# Altium footprint library senoko_pvt1.PcbLib: 31 footprints (part 2 of 2)
Each footprint in its own frame and in the unit in brackets; x right, y up, seen from the top. Pads: shape width x height; smd on the part's side, far side on the other; paste and mask are expansions set on the pad; w line width, h text height; cw(c..) or ccw(c..) is an arc to the next point about the centre after c.
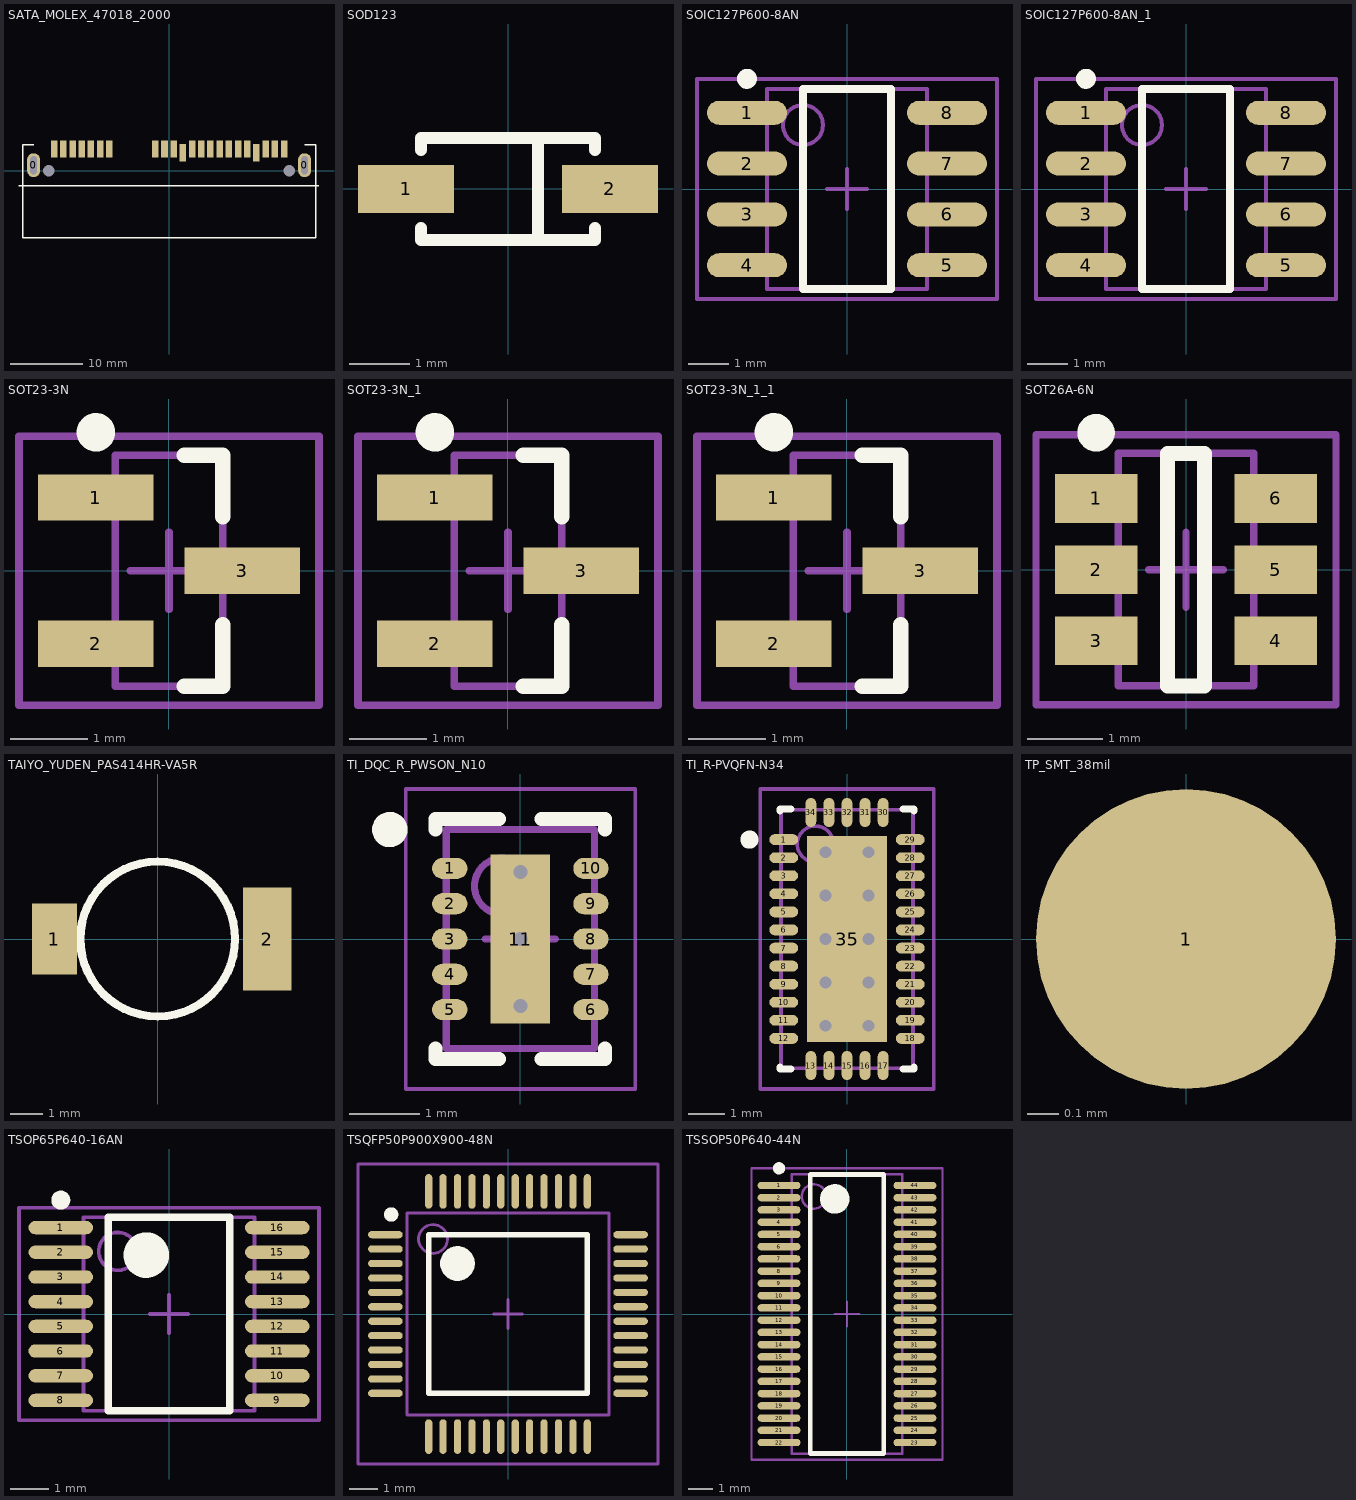
[diagram p1: the footprints below, top view; thin cyan lines are the x and y axes]

## SATA_MOLEX_47018_2000 [mm] "SATA docking connector, top mount type"
height 9.65
pads (26):
  oval 1.8x3.3 hole 0.9 slot 2.5 at 90 deg mask+0.07: 0(-18.71,0.76) 0(18.71,0.76)
  round 1 hole 1.6 unplated mask+0.07: 0(-16.595,0) 0(16.595,0)
  rect 0.9x2.4 smd mask+0.07: 1(15.875,3) 2(14.605,3) 3(13.335,3) 4(12.065,2.5) 5(10.795,3) 6(9.525,3) 7(8.255,3) 8(6.985,3) 9(5.715,3) 10(4.445,3) 11(3.175,3) 12(1.905,2.5) 13(0.635,3) 14(-0.635,3) 15(-1.905,3) 16(-8.255,3) 17(-9.525,3) 18(-10.795,3) 19(-12.065,3) 20(-13.335,3) 21(-14.605,3) 22(-15.875,3)
Top Overlay:
  lines w0.203: -20.725,-2.08 20.7,-2.08 ; -18.7,3.575 -20.2,3.575 -20.2,-9.25 20.225,-9.25 20.225,3.575 18.725,3.575
3D body "470182000.stp": height 4.35, standoff -2.31, extent -20.19,-9.285 20.24,3.585

## SOD123 [mm] "SOD-123; 2 Leads; Body 2.7 x 1.6 mm, (LxW)"
height 1.35
pads (2):
  rect 1.6x0.8 smd: 1(-1.7,0) 2(1.7,0)
Top Overlay:
  lines w0.2: -1.45,-0.65 -1.45,-0.85 1.45,-0.85 1.45,-0.65 ; -1.45,0.65 -1.45,0.85 1.45,0.85 1.45,0.65 ; 0.5,-0.85 0.5,0.85

## SOIC127P600-8AN [mm] "SOIC, 8-Leads, Body 4.9x3.9mm, Pitch 1.27mm, IPC Medium Density"
height 2.72
pads (8):
  oval 2x0.6 smd: 1(-2.5,1.905) 2(-2.5,0.635) 3(-2.5,-0.635) 4(-2.5,-1.905) 5(2.5,-1.905) 6(2.5,-0.635) 7(2.5,0.635) 8(2.5,1.905)
Top Overlay:
  circle w0.25: c-2.5,2.755 r0.125
  lines w0.2: -1.1,-2.5 -1.1,2.5 1.1,2.5 1.1,-2.5 -1.1,-2.5
Mechanical 13:
  circle w0.1: c-1.1,1.6 r0.5
  lines w0.1: -2,-2.5 -2,2.5 2,2.5 2,-2.5 -2,-2.5
Mechanical 15:
  lines w0.1: -0.5,0 0.5,0 ; 0,-0.5 0,0.5 ; -3.75,-2.75 -3.75,2.75 3.75,2.75 3.75,-2.75 -3.75,-2.75
3D body: height 2.72, standoff 0, extent -2,-2.5 2,2.5

## SOIC127P600-8AN_1 [mm] "SOIC, 8-Leads, Body 4.9x3.9mm, Pitch 1.27mm, IPC Medium Density"
height 2.72
pads (8):
  oval 2x0.6 smd: 1(-2.5,1.905) 2(-2.5,0.635) 3(-2.5,-0.635) 4(-2.5,-1.905) 5(2.5,-1.905) 6(2.5,-0.635) 7(2.5,0.635) 8(2.5,1.905)
Top Overlay:
  circle w0.25: c-2.5,2.755 r0.125
  lines w0.2: -1.1,-2.5 -1.1,2.5 1.1,2.5 1.1,-2.5 -1.1,-2.5
Mechanical 13:
  circle w0.1: c-1.1,1.6 r0.5
  lines w0.1: -2,-2.5 -2,2.5 2,2.5 2,-2.5 -2,-2.5
Mechanical 15:
  lines w0.1: -0.5,0 0.5,0 ; 0,-0.5 0,0.5 ; -3.75,-2.75 -3.75,2.75 3.75,2.75 3.75,-2.75 -3.75,-2.75
3D body: height 2.72, standoff 0, extent -2,-2.5 2,2.5

## SOT23-3N [mm] "SOT23, 3-Leads, Body 2.9x1.3mm, Pitch 0.95mm, Lead Span 2.5mm, IPC Medium Density"
height 1.1
pads (3):
  rect 1.5x0.6 smd: 1(-0.95,0.95) 2(-0.95,-0.95) 3(0.95,0)
Top Overlay:
  circle w0.25: c-0.95,1.8 r0.125
  lines w0.2: 0.2,-1.5 0.7,-1.5 0.7,-0.7 ; 0.2,1.5 0.7,1.5 0.7,0.7
Mechanical 13:
  lines w0.1: -0.7,-1.5 0.7,-1.5 0.7,1.5 -0.7,1.5 -0.7,-1.5
Mechanical 15:
  lines w0.1: -0.5,0 0.5,0 ; 0,-0.5 0,0.5 ; -1.95,-1.75 1.95,-1.75 1.95,1.75 -1.95,1.75 -1.95,-1.75
3D body: height 1.1, standoff 0, extent -0.7,-1.5 0.7,1.5

## SOT23-3N_1 [mm] "SOT23, 3-Leads, Body 2.9x1.3mm, Pitch 0.95mm, Lead Span 2.5mm, IPC Medium Density"
height 1.1
pads (3):
  rect 1.5x0.6 smd: 1(-0.95,0.95) 2(-0.95,-0.95) 3(0.95,0)
Top Overlay:
  circle w0.25: c-0.95,1.8 r0.125
  lines w0.2: 0.2,-1.5 0.7,-1.5 0.7,-0.7 ; 0.2,1.5 0.7,1.5 0.7,0.7
Mechanical 13:
  lines w0.1: -0.7,-1.5 0.7,-1.5 0.7,1.5 -0.7,1.5 -0.7,-1.5
Mechanical 15:
  lines w0.1: -0.5,0 0.5,0 ; 0,-0.5 0,0.5 ; -1.95,-1.75 1.95,-1.75 1.95,1.75 -1.95,1.75 -1.95,-1.75
3D body: height 1.1, standoff 0, extent -0.7,-1.5 0.7,1.5

## SOT23-3N_1_1 [mm] "SOT23, 3-Leads, Body 2.9x1.3mm, Pitch 0.95mm, Lead Span 2.5mm, IPC Medium Density"
height 1.1
pads (3):
  rect 1.5x0.6 smd: 1(-0.95,0.95) 2(-0.95,-0.95) 3(0.95,0)
Top Overlay:
  circle w0.25: c-0.95,1.8 r0.125
  lines w0.2: 0.2,-1.5 0.7,-1.5 0.7,-0.7 ; 0.2,1.5 0.7,1.5 0.7,0.7
Mechanical 13:
  lines w0.1: -0.7,-1.5 0.7,-1.5 0.7,1.5 -0.7,1.5 -0.7,-1.5
Mechanical 15:
  lines w0.1: -0.5,0 0.5,0 ; 0,-0.5 0,0.5 ; -1.95,-1.75 1.95,-1.75 1.95,1.75 -1.95,1.75 -1.95,-1.75
3D body: height 1.1, standoff 0, extent -0.7,-1.5 0.7,1.5

## SOT26A-6N [mm] "SOT23, 6-Leads, Body 2.9x1.7mm, Pitch 0.95mm, Lead Span 2.8mm, IPC Medium Density"
height 1.45
pads (6):
  rect 1.1x0.65 smd: 1(-1.2,0.95) 2(-1.2,0) 3(-1.2,-0.95) 4(1.2,-0.95) 5(1.2,0) 6(1.2,0.95)
Top Overlay:
  circle w0.25: c-1.2,1.825 r0.125
  lines w0.2: -0.25,-1.55 0.25,-1.55 0.25,1.55 -0.25,1.55 -0.25,-1.55
Mechanical 13:
  lines w0.1: -0.9,-1.55 -0.9,1.55 0.9,1.55 0.9,-1.55 -0.9,-1.55
Mechanical 15:
  lines w0.1: -0.5,0 0.5,0 ; 0,-0.5 0,0.5 ; -2,-1.8 -2,1.8 2,1.8 2,-1.8 -2,-1.8
3D body: height 1.45, standoff 0, extent -0.9,-1.55 0.9,1.55

## TAIYO_YUDEN_PAS414HR-VA5R [mm] "Taiyo Yuden Supercap"
height 1.4
pads (2):
  rect 1.4x2.2 smd: 1(-3.2,0)
  rect 1.5x3.2 smd: 2(3.4,0)
Top Overlay:
  circle w0.254: c0,0 r2.4
3D body: height 1.4, standoff 0, extent -2.362,-2.391 2.419,2.4

## TI_DQC_R_PWSON_N10 [mm] "TI Plastic small outline no-lead 10 pins with power pad"
height 0.8
pads (11):
  oval 0.5x0.3 smd mask+0.07: 1(-1,1) 2(-1,0.5) 3(-1,0) 4(-1,-0.5) 5(-1,-1) 6(1,-1) 7(1,-0.5) 8(1,0) 9(1,0.5) 10(1,1)
  rect 0.84x2.4 smd mask+0.07: 11(0,0)
via 0,0 diameter 0.5 hole 0.2
via 0,0.95 diameter 0.5 hole 0.2
via 0,-0.95 diameter 0.5 hole 0.2
Top Overlay:
  circle w0.25: c-1.85,1.55 r0.125
  lines w0.2: -1.2,-1.55 -1.2,-1.7 -0.3,-1.7 ; -1.2,1.55 -1.2,1.7 -0.3,1.7 ; 0.3,-1.7 1.2,-1.7 1.2,-1.55 ; 0.3,1.7 1.2,1.7 1.2,1.55
Mechanical 13:
  circle w0.1: c-0.25,0.75 r0.4
  lines w0.1: -1.05,-1.55 1.05,-1.55 1.05,1.55 -1.05,1.55 -1.05,-1.55
Mechanical 15:
  lines w0.05: -1.625,-2.125 1.625,-2.125 1.625,2.125 -1.625,2.125 -1.625,-2.125
  lines w0.1: -0.5,0 0.5,0 ; 0,-0.5 0,0.5
3D body: height 0.8, standoff 0, extent -1.05,-1.55 1.05,1.55

## TI_R-PVQFN-N34 [mm] "34-pin QFN (from TI datasheet)"
height 1
pads (35):
  oval 0.8x0.3 smd mask+0.07: 1(-1.75,2.75) 2(-1.75,2.25) 3(-1.75,1.75) 4(-1.75,1.25) 5(-1.75,0.75) 6(-1.75,0.25) 7(-1.75,-0.25) 8(-1.75,-0.75) 9(-1.75,-1.25) 10(-1.75,-1.75) 11(-1.75,-2.25) 12(-1.75,-2.75) 18(1.75,-2.75) 19(1.75,-2.25) 20(1.75,-1.75) 21(1.75,-1.25) 22(1.75,-0.75) 23(1.75,-0.25) 24(1.75,0.25) 25(1.75,0.75) 26(1.75,1.25) 27(1.75,1.75) 28(1.75,2.25) 29(1.75,2.75)
  oval 0.3x0.8 smd mask+0.07: 13(-1,-3.5) 14(-0.5,-3.5) 15(0,-3.5) 16(0.5,-3.5) 17(1,-3.5) 30(1,3.5) 31(0.5,3.5) 32(0,3.5) 33(-0.5,3.5) 34(-1,3.5)
  rect 2.2x5.7 smd mask+0.07: 35(0,0)
via -0.6,2.4 diameter 0.66 hole 0.33
via 0.6,2.4 diameter 0.66 hole 0.33
via -0.6,1.2 diameter 0.66 hole 0.33
via 0.6,1.2 diameter 0.66 hole 0.33
via -0.6,0 diameter 0.66 hole 0.33
via -0.6,-1.2 diameter 0.66 hole 0.33
via 0.6,-1.2 diameter 0.66 hole 0.33
via -0.6,-2.4 diameter 0.66 hole 0.33
via 0.6,-2.4 diameter 0.66 hole 0.33
via 0.6,0 diameter 0.66 hole 0.33
Top Overlay:
  circle w0.25: c-2.7,2.75 r0.125
  lines w0.2: -1.85,-3.55 -1.85,-3.6 -1.55,-3.6 ; -1.85,3.55 -1.85,3.6 -1.55,3.6 ; 1.55,-3.6 1.85,-3.6 1.85,-3.55 ; 1.55,3.6 1.85,3.6 1.85,3.55
Mechanical 13:
  circle w0.1: c-0.875,2.625 r0.5
  lines w0.1: -1.825,-3.575 -1.825,3.575 1.825,3.575 1.825,-3.575 -1.825,-3.575
Mechanical 15:
  lines w0.1: -0.5,0 0.5,0 ; 0,-0.5 0,0.5 ; -2.4,-4.15 -2.4,4.15 2.4,4.15 2.4,-4.15 -2.4,-4.15
3D body: height 1, standoff 0, extent -1.825,-3.575 1.825,3.575

## TP_SMT_38mil [mil] "38 mil round test point, SMT"
height 114.17
pads (1):
  round 38 smd: 1(0,0)

## TSOP65P640-16AN [mm] "TSOP, 16-Leads, Body 5x4.4mm, Pitch 0.65mm, IPC Medium Density"
height 1.1
pads (16):
  oval 1.7x0.35 smd: 1(-2.85,2.275) 2(-2.85,1.625) 3(-2.85,0.975) 4(-2.85,0.325) 5(-2.85,-0.325) 6(-2.85,-0.975) 7(-2.85,-1.625) 8(-2.85,-2.275) 9(2.85,-2.275) 10(2.85,-1.625) 11(2.85,-0.975) 12(2.85,-0.325) 13(2.85,0.325) 14(2.85,0.975) 15(2.85,1.625) 16(2.85,2.275)
Top Overlay:
  circle w0.25: c-2.85,3 r0.125
  circle w0.6: c-0.6,1.55 r0.3
  lines w0.2: -1.6,-2.55 -1.6,2.55 1.6,2.55 1.6,-2.55 -1.6,-2.55
Mechanical 13:
  circle w0.1: c-1.35,1.65 r0.5
  lines w0.1: -2.25,-2.55 -2.25,2.55 2.25,2.55 2.25,-2.55 -2.25,-2.55
Mechanical 15:
  lines w0.1: -0.5,0 0.5,0 ; 0,-0.5 0,0.5 ; -3.95,-2.8 -3.95,2.8 3.95,2.8 3.95,-2.8 -3.95,-2.8
3D body: height 1.1, standoff 0, extent -2.25,-2.55 2.25,2.55

## TSQFP50P900X900-48N [mm] "Thin QFP, 48-Leads, Body 7x7mm, Pitch 0.5mm, IPC Medium Density"
height 1.6
pads (48):
  oval 1.2x0.25 smd: 1(-4.25,2.75) 2(-4.25,2.25) 3(-4.25,1.75) 4(-4.25,1.25) 5(-4.25,0.75) 6(-4.25,0.25) 7(-4.25,-0.25) 8(-4.25,-0.75) 9(-4.25,-1.25) 10(-4.25,-1.75) 11(-4.25,-2.25) 12(-4.25,-2.75) 25(4.25,-2.75) 26(4.25,-2.25) 27(4.25,-1.75) 28(4.25,-1.25) 29(4.25,-0.75) 30(4.25,-0.25) 31(4.25,0.25) 32(4.25,0.75) 33(4.25,1.25) 34(4.25,1.75) 35(4.25,2.25) 36(4.25,2.75)
  oval 0.25x1.2 smd: 13(-2.75,-4.25) 14(-2.25,-4.25) 15(-1.75,-4.25) 16(-1.25,-4.25) 17(-0.75,-4.25) 18(-0.25,-4.25) 19(0.25,-4.25) 20(0.75,-4.25) 21(1.25,-4.25) 22(1.75,-4.25) 23(2.25,-4.25) 24(2.75,-4.25) 37(2.75,4.25) 38(2.25,4.25) 39(1.75,4.25) 40(1.25,4.25) 41(0.75,4.25) 42(0.25,4.25) 43(-0.25,4.25) 44(-0.75,4.25) 45(-1.25,4.25) 46(-1.75,4.25) 47(-2.25,4.25) 48(-2.75,4.25)
Top Overlay:
  circle w0.25: c-4.05,3.45 r0.125
  circle w0.6: c-1.75,1.75 r0.3
  lines w0.2: -2.75,-2.75 -2.75,2.75 2.75,2.75 2.75,-2.75 -2.75,-2.75
Mechanical 13:
  circle w0.1: c-2.6,2.6 r0.5
  lines w0.1: -3.5,-3.5 -3.5,3.5 3.5,3.5 3.5,-3.5 -3.5,-3.5
Mechanical 15:
  lines w0.1: -0.5,0 0.5,0 ; 0,-0.5 0,0.5 ; -5.2,-5.2 -5.2,5.2 5.2,5.2 5.2,-5.2 -5.2,-5.2
3D body "User Library-TQFP-48.STEP": height 1.42, standoff -0.04, extent -4.5,-4.5 4.5,4.5

## TSSOP50P640-44N [mm] "TSSOP, 44-Leads, Body 11x4.4mm, Pitch 0.5mm, IPC Medium Density"
height 1.2
pads (44):
  oval 1.75x0.3 smd: 1(-2.775,5.25) 2(-2.775,4.75) 3(-2.775,4.25) 4(-2.775,3.75) 5(-2.775,3.25) 6(-2.775,2.75) 7(-2.775,2.25) 8(-2.775,1.75) 9(-2.775,1.25) 10(-2.775,0.75) 11(-2.775,0.25) 12(-2.775,-0.25) 13(-2.775,-0.75) 14(-2.775,-1.25) 15(-2.775,-1.75) 16(-2.775,-2.25) 17(-2.775,-2.75) 18(-2.775,-3.25) 19(-2.775,-3.75) 20(-2.775,-4.25) 21(-2.775,-4.75) 22(-2.775,-5.25) 23(2.775,-5.25) 24(2.775,-4.75) 25(2.775,-4.25) 26(2.775,-3.75) 27(2.775,-3.25) 28(2.775,-2.75) 29(2.775,-2.25) 30(2.775,-1.75) 31(2.775,-1.25) 32(2.775,-0.75) 33(2.775,-0.25) 34(2.775,0.25) 35(2.775,0.75) 36(2.775,1.25) 37(2.775,1.75) 38(2.775,2.25) 39(2.775,2.75) 40(2.775,3.25) 41(2.775,3.75) 42(2.775,4.25) 43(2.775,4.75) 44(2.775,5.25)
Top Overlay:
  circle w0.6: c-0.5,4.7 r0.3
  circle w0.25: c-2.775,5.95 r0.125
  lines w0.2: -1.5,-5.7 1.5,-5.7 1.5,5.7 -1.5,5.7 -1.5,-5.7
Mechanical 13:
  circle w0.1: c-1.35,4.8 r0.5
  lines w0.1: -2.25,-5.7 2.25,-5.7 2.25,5.7 -2.25,5.7 -2.25,-5.7
Mechanical 15:
  lines w0.1: -0.5,0 0.5,0 ; 0,-0.5 0,0.5 ; -3.9,-5.95 3.9,-5.95 3.9,5.95 -3.9,5.95 -3.9,-5.95
3D body: height 1.2, standoff 0, extent -2.25,-5.7 2.25,5.7